# EAGLE library part 505110-1292 (library NM_Visual_Cortex_12-10-18)
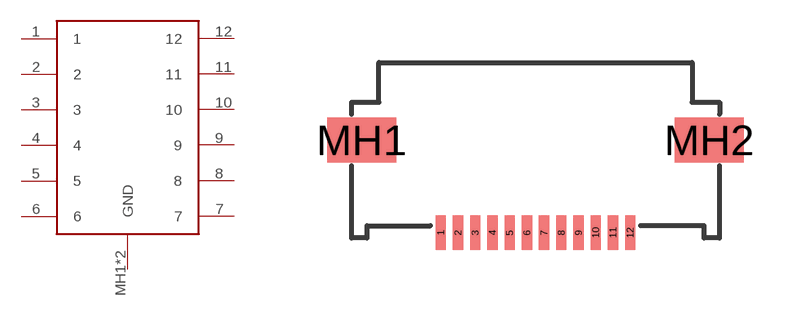
[diagram p17: symbol with the pads of 505110-1292; footprint 505110-1292]

Designator prefix -

## 505110-1292  [505110-1292]
1  1
2  2
3  3
4  4
5  5
6  6
7  7
8  8
9  9
10  10
11  11
12  12
MH1  GND
MH2  GND

## Footprint 505110-1292 (pad centres in mm)
smd 0.3 x 1: 1 -2.75,-2.7; 2 -2.25,-2.7; 3 -1.75,-2.7; 4 -1.25,-2.7; 5 -0.75,-2.7; 6 -0.25,-2.7; 7 0.25,-2.7; 8 0.75,-2.7; 9 1.25,-2.7; 10 1.75,-2.7; 11 2.25,-2.7; 12 2.75,-2.7
smd 2 x 1.3: MH1 -5.05,0; MH2 5.05,0